# Altium schematic symbol library 0ZCK0020FF2G.SchLib: 1 symbol
Pins are listed as number, name and electrical type; pins without a type are passive.

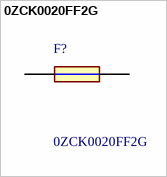
[diagram p0: symbol 0ZCK0020FF2G]

## 0ZCK0020FF2G
designator F?
BEL FUSE - 0ZCK0020FF2G - FUSE, RESETTABLE PTC, 9VDC, 0.2A, SMD; Geometry.Height: 1mm; Mouser Part Number: 530-0ZCK0020FF2G; Mouser Price/Stock: https://www.mouser.co.uk/ProductDetail/Bel-Fuse/0ZCK0020FF2G?qs=SRYZG9HaIQ1YaXTwF3oUbw%3D%3D; Manufacturer_Name: BelFuse; Manufacturer_Part_Number: 0ZCK0020FF2G; Datasheet Link: https://datasheet.datasheetarchive.com/originals/dk/DKDS-24/478080.pdf
footprint FUSC2214X100N
pins: 1, 2